# EAGLE library part 653114124022 (library WR-WTB)
WR-WTB 1.25 mm SMT Male Vertical Shrouded Header Material Properties Insulator Material PA9T Insulator Flammability Rating UL94 V-0 Color Ivory Contact Material Copper Alloy Contact Plating Tin Contact Type Stamped Certification UL Approval E323964 General Information Operating Temperature -40 °C up to +85 °C Compliance RoHS IR 1 A Working Voltage 125 V (AC) Withstanding Voltage 250 V (AC) Contact Resistance 20 mΩ RISO 100 MΩ Pitch 1.25 mm Gender Male Type Vertical Packaging Properties Packaging Tape and Reel <https://www.we-online.com/components/media/o33372v209%206531xx124022_Multi-parts.jpg> Details see: www.we-online.com/en/components/products/WTB_1_25_SMT_MALE_VERTICAL_SHROUDED_HEADER_6531XX124022 <www.we-online.com/catalog/WTB_1_25_SMT_MALE_VERTICAL_SHROUDED_HEADER_6531XX124022/?utm_source=eagle_model&utm_medium=description_link&utm_campaign=eisos_eagle> Updated by Ella 2025-03-06 2025 (C) Würth Elektronik
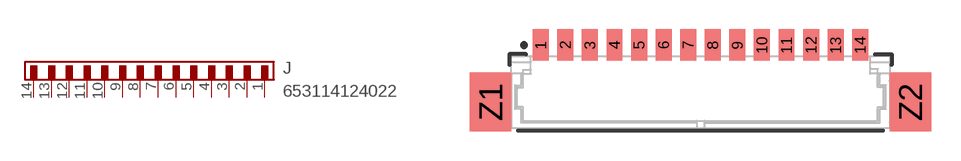
[diagram p35: symbol with the pads of 653114124022; footprint 653114124022]

Designator prefix J

## 653114124022 (CONTACT-RESISTANCE: 20mOhm; DATASHEET-URL: https://www.we-online.com/redexpert/spec/653114124022?ae; GENDER: Male; IR: 1A; L: 22.25mm; MOUNT: SMT; PACKAGING: Tape and Reel; PART-NUMBER: 653114124022; PCB-CABLE-PANEL: PCB; PINS: 14; PITCH: 1.25mm; TYPE: Vertical; VALUE: 653114124022; WORKING-VOLTAGE: 125V(AC))  [653114124022]
1  1  pas
2  2  pas
3  3  pas
4  4  pas
5  5  pas
6  6  pas
7  7  pas
8  8  pas
9  9  pas
10  10  pas
11  11  pas
12  12  pas
13  13  pas
14  14  pas

## Footprint 653114124022 (pad centres in mm)
WR-WTB 1.25 mm SMT Male Vertical Shrouded Header,14 Pins
smd 0.81 x 1.6: 1 -8.125,2.41; 2 -6.875,2.41; 3 -5.625,2.41; 4 -4.375,2.41; 5 -3.125,2.41; 6 -1.875,2.41; 7 -0.625,2.41; 8 0.625,2.41; 9 1.875,2.41; 10 3.125,2.41; 11 4.375,2.41; 12 5.625,2.41; 13 6.875,2.41; 14 8.125,2.41
smd 2.1 x 3: Z1 -10.675,-0.49; Z2 10.675,-0.49